# Altium schematic symbol library LM5114.SchLib: 1 symbol
Pins are listed as number, name and electrical type; pins without a type are passive.

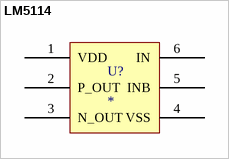
[diagram p0: symbol LM5114]

## LM5114
designator U?
LM5114
pins: 1 VDD (power), 2 P_OUT, 3 N_OUT, 4 VSS (power), 5 INB, 6 IN